# Altium footprint library PCBLibPutallaz.PcbLib: 49 footprints (part 1 of 4)
Each footprint in its own frame and in the unit in brackets; x right, y up, seen from the top. Pads: shape width x height; smd on the part's side, far side on the other; paste and mask are expansions set on the pad; w line width, h text height; cw(c..) or ccw(c..) is an arc to the next point about the centre after c.
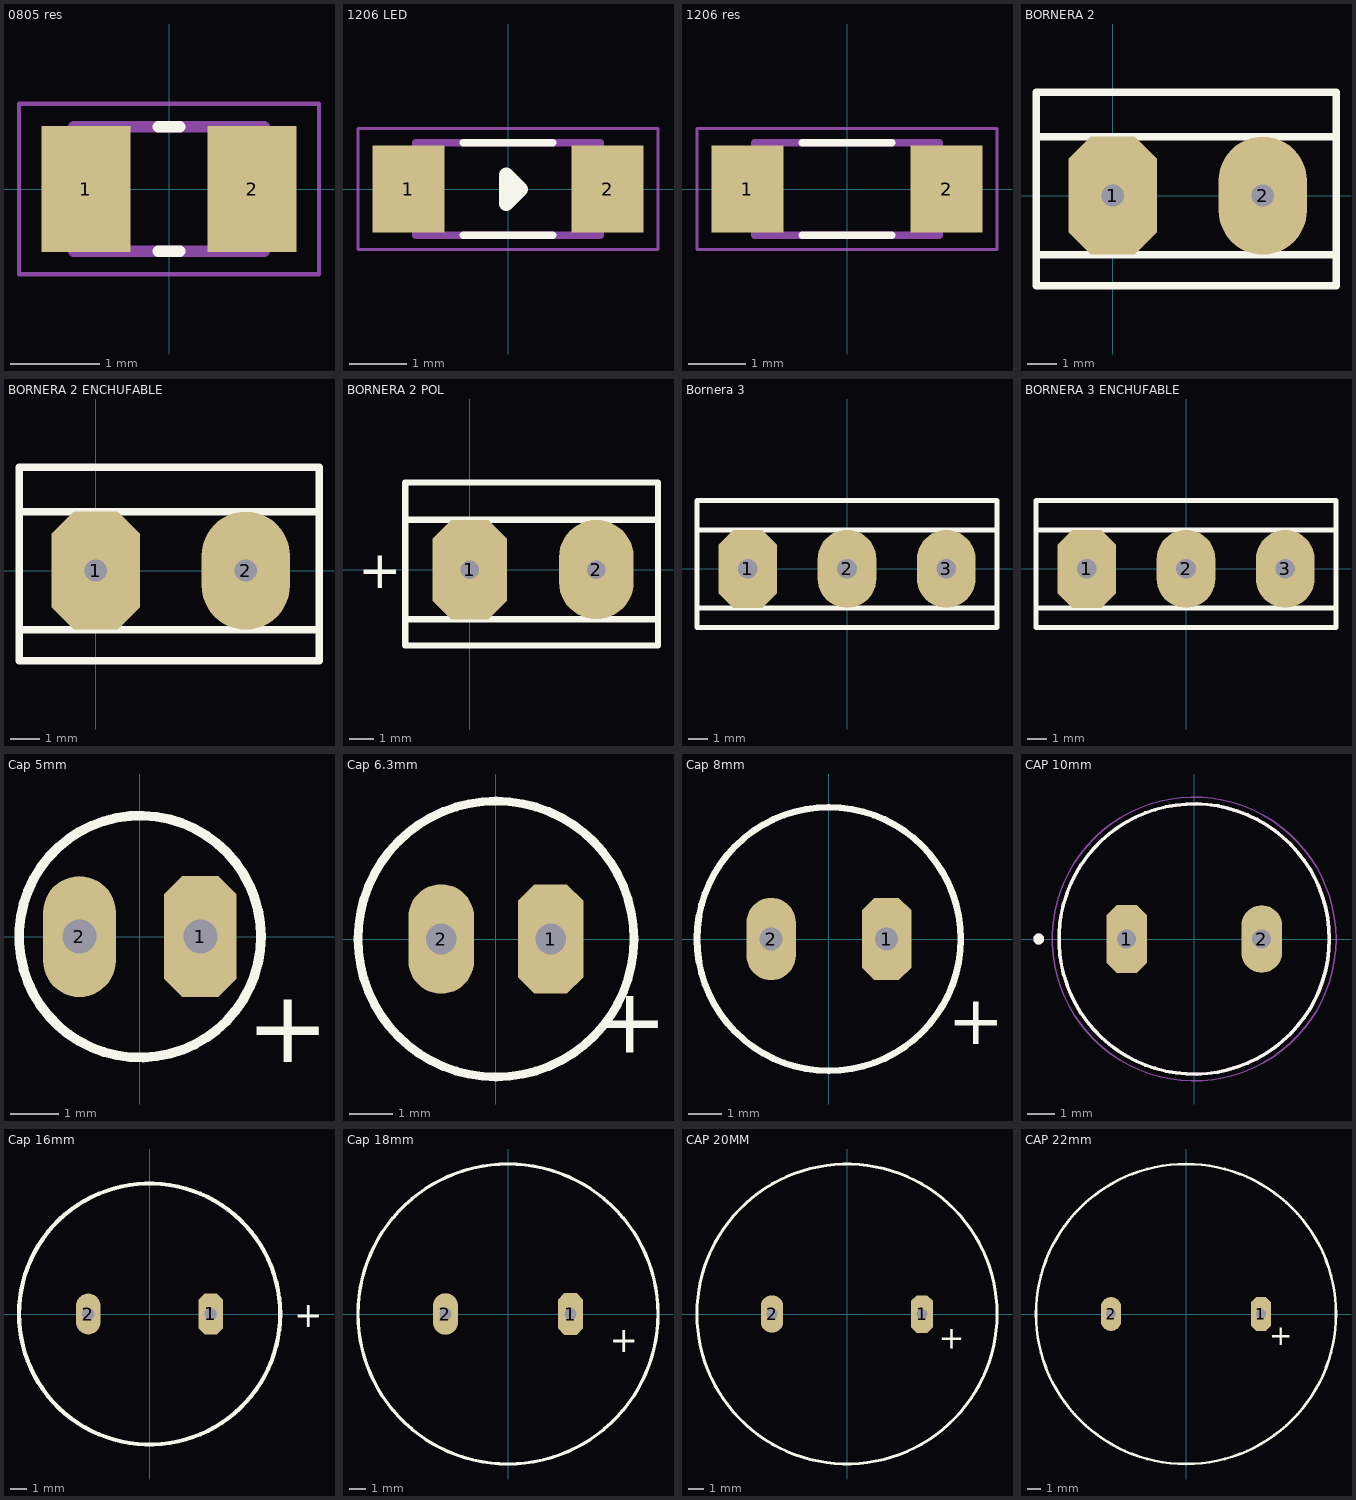
[diagram p0: the footprints below, top view; thin cyan lines are the x and y axes]

## 0805 res [mm]
pads (2):
  rect 1x1.42 smd: 1(-0.935,0) 2(0.935,0)
Top Overlay:
  lines w0.127: -0.12,-0.7 0.12,-0.7 ; -0.12,0.7 0.12,0.7
Mechanical 13:
  lines w0.127: -1.07,-0.7 -1.07,0.7 1.07,0.7 1.07,-0.7 -1.07,-0.7
Mechanical 15:
  lines w0.05: -1.685,-0.96 -1.685,0.96 1.685,0.96 1.685,-0.96 -1.685,-0.96
3D body "step_temp.STEP": height 0.6, standoff 0, extent -1,-0.625 1,0.625

## 1206 LED [mm]
pads (2):
  rect 1.25x1.5 smd: 1(-1.725,0) 2(1.725,0)
Top Overlay:
  lines w0.127: -0.78,-0.8 0.78,-0.8 ; -0.78,0.8 0.78,0.8
  lines w0.254: -0.028,-0.255 -0.028,0.245 0.222,-0.005 -0.028,-0.255
Mechanical 13:
  lines w0.127: -1.6,-0.8 1.6,-0.8 1.6,0.8 -1.6,0.8 -1.6,-0.8
Mechanical 15:
  lines w0.05: -2.6,-1.05 2.6,-1.05 2.6,1.05 -2.6,1.05 -2.6,-1.05
3D body "STP_156120xx75300_rev1 (2).stp": height 1.2, standoff 0, extent -1.6,-0.8 1.6,0.8

## 1206 res [mm]
pads (2):
  rect 1.25x1.5 smd: 1(-1.725,0) 2(1.725,0)
Top Overlay:
  lines w0.127: -0.78,-0.8 0.78,-0.8 ; -0.78,0.8 0.78,0.8
Mechanical 13:
  lines w0.127: -1.6,-0.8 -1.6,0.8 1.6,0.8 1.6,-0.8 -1.6,-0.8
Mechanical 15:
  lines w0.05: -2.6,-1.05 -2.6,1.05 2.6,1.05 2.6,-1.05 -2.6,-1.05
3D body "ERJ-U08J3R9V.STEP": height 0.6, standoff 0, extent -1.6,-0.8 1.6,0.8

## BORNERA 2 [mm] "Connector; Header; 2 Position"
pads (2):
  oct 3x4 hole 0.75: 1(0,0)
  oval 3x4 hole 0.75: 2(5.08,0)
Top Overlay:
  lines w0.254: -2.6,3.45 -2.6,-3.05 7.56,-3.05 7.56,3.45 ; -2.6,3.5 7.56,3.5 ; -2.5,-2 7.5,-2 ; -2.5,2 7.5,2
3D body "Download_STP_691213510002_rev1.stp": height 10, standoff -3.5, extent -3.26,-3.85 8.1,4.25

## BORNERA 2 ENCHUFABLE [mm] "Connector; Header; 2 Position"
pads (2):
  oct 3x4 hole 0.75: 1(0,0)
  oval 3x4 hole 0.75: 2(5.08,0)
Top Overlay:
  lines w0.254: -2.6,3.45 -2.6,-3.05 7.56,-3.05 7.56,3.45 ; -2.6,3.5 7.56,3.5 ; -2.5,-2 7.5,-2 ; -2.5,2 7.5,2

## BORNERA 2 POL [mm] "Connector; Header; 2 Position"
pads (2):
  oct 3x4 hole 0.75: 1(0,0)
  oval 3x4 hole 0.75: 2(5.08,0)
Top Overlay:
  lines w0.254: -2.6,3.45 -2.6,-3.05 7.56,-3.05 7.56,3.45 ; -2.6,3.5 7.56,3.5 ; -2.5,-2 7.5,-2 ; -2.5,2 7.5,2
  text "+" at -4.496,-0.75 h1.52
3D body "Download_STP_691213510002_rev1.stp": height 10, standoff -3.5, extent -3.26,-3.85 8.1,4.25

## Bornera 3 [mm] "Connector; Header; 3 Position"
pads (3):
  oct 3x4 hole 1: 1(-5.08,0)
  oval 3x4 hole 1: 2(0,0) 3(5.08,0)
Top Overlay:
  lines w0.254: -7.68,-2 -7.68,-3 7.68,-3 7.68,-2 ; -7.68,-2 -7.68,2 ; -7.68,-2 7.68,-2 ; -7.68,2 -7.68,3.5 7.68,3.5 7.68,2 ; -7.68,2 7.68,2 ; 7.68,-2 7.68,2
3D body "Download_STP_691236510003_rev1.stp": height 18, standoff -4, extent -7.913,-6.028 7.927,5.322

## BORNERA 3 ENCHUFABLE [mm] "Connector; Header; 3 Position"
pads (3):
  oct 3x4 hole 1: 1(-5.08,0)
  oval 3x4 hole 1: 2(0,0) 3(5.08,0)
Top Overlay:
  lines w0.254: -7.68,-2 7.68,-2 ; -7.68,-2 -7.68,2 ; -7.68,-2 -7.68,-3 7.68,-3 7.68,-2 ; -7.68,2 7.68,2 ; -7.68,2 -7.68,3.5 7.68,3.5 7.68,2 ; 7.68,-2 7.68,2
3D body "CUI_DEVICES_TBP01R2-508-03BE.step": height 12.1, standoff -3.9, extent -8.42,-4 8.42,4.5

## Cap 5mm [mm] "Polarized Capacitor (Radial); 2 Leads"
pads (2):
  oct 1.5x2.5 hole 0.7: 1(1.25,0)
  oval 1.5x2.5 hole 0.7: 2(-1.25,0)
Top Overlay:
  circle w0.2: c0,0 r2.5
  text "+" at 2.2,-2.6 h1.5
3D body "ECE-A1HKS100B.STEP": height 5, standoff -17, extent -3.145,-3.176 3.155,3.124

## Cap 6.3mm [mm] "Polarized Capacitor (Radial); 2 Leads"
pads (2):
  oct 1.5x2.5 hole 0.7: 1(1.25,0)
  oval 1.5x2.5 hole 0.7: 2(-1.25,0)
Top Overlay:
  circle w0.2: c0,0 r3.15
  text "+" at 2.2,-2.6 h1.5
3D body "EEU-EB1E101.STEP": height 15, standoff -17, extent -3.155,-3.169 3.145,3.126

## Cap 8mm [mm] "Polarized Capacitor (Radial); 2 Leads"
pads (2):
  oct 1.5x2.5 hole 0.7: 1(1.75,0)
  oval 1.5x2.5 hole 0.7: 2(-1.75,0)
Top Overlay:
  circle w0.2: c0,0 r4
  text "+" at 3.6,-3.2 h1.5
3D body: height 1, standoff 0, extent -4,-4 4,4

## CAP 10mm [mm]
pads (2):
  oct 1.5x2.5 hole 0.7: 1(-2.5,0)
  oval 1.5x2.5 hole 0.7: 2(2.5,0)
Top Overlay:
  circle w0.2: c-5.75,0 r0.1
  circle w0.127: c0,0 r5
Mechanical 13:
  circle w0.2: c-5.75,0 r0.1
  circle w0.127: c0,0 r5
Mechanical 15:
  circle w0.05: c0,0 r5.25
3D body "step_temp.STEP": height 20, standoff -17, extent -5,-5 5,5

## Cap 16mm [mm]
pads (2):
  oct 1.5x2.5 hole 0.762: 1(3.75,0)
  oval 1.5x2.5 hole 0.762: 2(-3.75,0)
Top Overlay:
  circle w0.254: c0,0 r8
  text "+" at 8.854,-0.8 h1.52
3D body: height 1, standoff 0, extent -8,-8 8,8

## Cap 18mm [mm] "Polarized Capacitor (Radial); 2 Leads"
pads (2):
  oct 1.5x2.5 hole 0.7: 1(3.75,0)
  oval 1.5x2.5 hole 0.7: 2(-3.75,0)
Top Overlay:
  circle w0.2: c0,0 r9
  text "+" at 6.1,-2.3 h1.5
3D body: height 1, standoff 0, extent -9,-9 9,9

## CAP 20MM [mm] "Polarized Capacitor (Radial); 2 Leads"
pads (2):
  oct 1.5x2.5 hole 0.7: 1(5,0)
  oval 1.5x2.5 hole 0.7: 2(-5,0)
Top Overlay:
  circle w0.2: c0,0 r10
  text "+" at 6.1,-2.3 h1.5
3D body: height 40, standoff 0, extent -10,-9.995 10,9.995

## CAP 22mm [mm] "Polarized Capacitor (Radial); 2 Leads"
pads (2):
  oct 1.5x2.5 hole 0.7: 1(5.5,0)
  oval 1.5x2.5 hole 0.7: 2(-5.5,0)
Top Overlay:
  circle w0.2: c0,0 r11
  text "+" at 6.1,-2.3 h1.5
3D body: height 37, standoff 0, extent -11,-11 11,11